# EAGLE library part LAN9500 (library WakamelibGOOD)
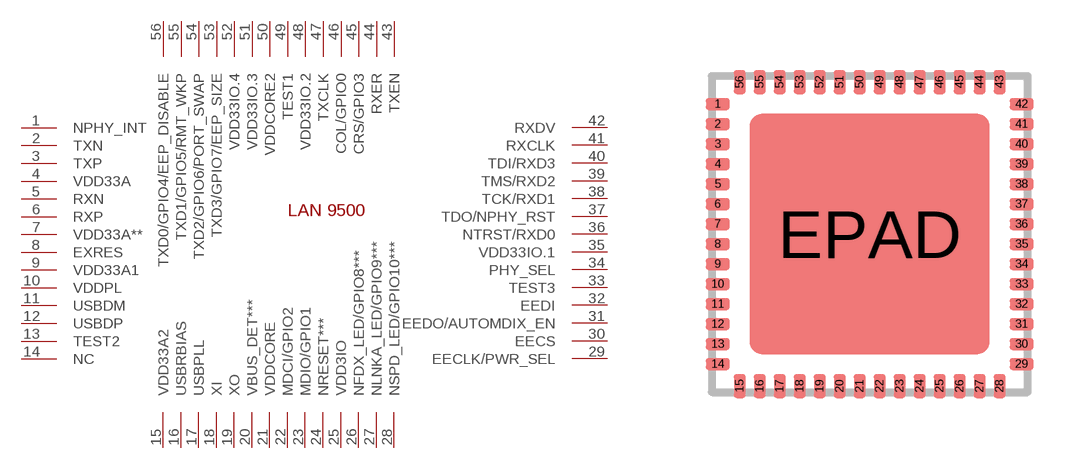
[diagram p15: symbol with the pads of QFN56; footprint QFN56]

Designator prefix -

## LAN9500  [QFN56]
1  NPHY_INT
2  TXN
3  TXP
4  VDD33A
5  RXN
6  RXP
7  VDD33A**
8  EXRES
9  VDD33A1
10  VDDPL
11  USBDM
12  USBDP
13  TEST2
14  NC
15  VDD33A2
16  USBRBIAS
17  USBPLL
18  XI
19  XO
20  VBUS_DET***
21  VDDCORE
22  MDCI/GPIO2
23  MDIO/GPIO1
24  NRESET***
25  VDD3IO
26  NFDX_LED/GPIO8***
27  NLNKA_LED/GPIO9***
28  NSPD_LED/GPIO10***
29  EECLK/PWR_SEL
30  EECS
31  EEDO/AUTOMDIX_EN
32  EEDI
33  TEST3
34  PHY_SEL
35  VDD33IO.1
36  NTRST/RXD0
37  TDO/NPHY_RST
38  TCK/RXD1
39  TMS/RXD2
40  TDI/RXD3
41  RXCLK
42  RXDV
43  TXEN
44  RXER
45  CRS/GPIO3
46  COL/GPIO0
47  TXCLK
48  VDD33IO.2
49  TEST1
50  VDDCORE2
51  VDD33IO.3
52  VDD33IO.4
53  TXD3/GPIO7/EEP_SIZE
54  TXD2/GPIO6/PORT_SWAP
55  TXD1/GPIO5/RMT_WKP
56  TXD0/GPIO4/EEP_DISABLE

## Footprint QFN56 (pad centres in mm)
LAN9500 MICROCHIP
smd 0.6 x 0.3: 1 -3.8,3.25; 2 -3.8,2.75; 3 -3.8,2.25; 4 -3.8,1.75; 5 -3.8,1.25; 6 -3.8,0.75; 7 -3.8,0.25; 8 -3.8,-0.25; 9 -3.8,-0.75; 10 -3.8,-1.25; 11 -3.8,-1.75; 12 -3.8,-2.25; 13 -3.8,-2.75; 14 -3.8,-3.25; 29 3.8,-3.25; 30 3.8,-2.75; 31 3.8,-2.25; 32 3.8,-1.75; 33 3.8,-1.25; 34 3.8,-0.75; 35 3.8,-0.25; 36 3.8,0.25; 37 3.8,0.75; 38 3.8,1.25; 39 3.8,1.75; 40 3.8,2.25; 41 3.8,2.75; 42 3.8,3.25
smd 0.3 x 0.6: 15 -3.25,-3.8; 16 -2.75,-3.8; 17 -2.25,-3.8; 18 -1.75,-3.8; 19 -1.25,-3.8; 20 -0.75,-3.8; 21 -0.25,-3.8; 22 0.25,-3.8; 23 0.75,-3.8; 24 1.25,-3.8; 25 1.75,-3.8; 26 2.25,-3.8; 27 2.75,-3.8; 28 3.25,-3.8; 43 3.25,3.8; 44 2.75,3.8; 45 2.25,3.8; 46 1.75,3.8; 47 1.25,3.8; 48 0.75,3.8; 49 0.25,3.8; 50 -0.25,3.8; 51 -0.75,3.8; 52 -1.25,3.8; 53 -1.75,3.8; 54 -2.25,3.8; 55 -2.75,3.8; 56 -3.25,3.8
smd 6 x 6: EPAD 0,0